# Altium footprint library IC_Logic.PcbLib: 2 footprints
Each footprint in its own frame and in the unit in brackets; x right, y up, seen from the top. Pads: shape width x height; smd on the part's side, far side on the other; paste and mask are expansions set on the pad; w line width, h text height; cw(c..) or ccw(c..) is an arc to the next point about the centre after c.
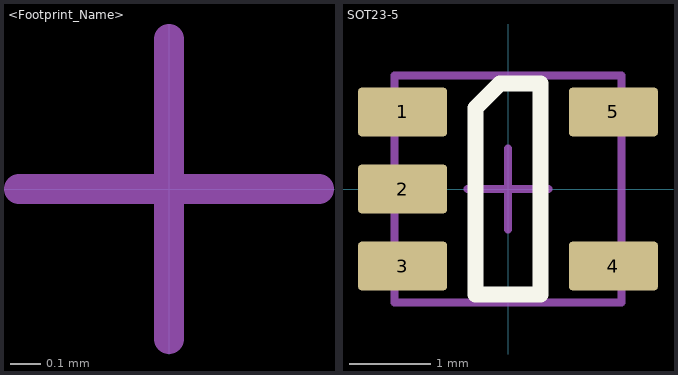
[diagram p0: the footprints below, top view; thin cyan lines are the x and y axes]

## <Footprint_Name> [mm] "<Package_Name>, <Number_of_pins>, <Pitch_in_mm>"
height 2.5
ReperDotTop:
  lines w0.1: -0.5,0 0.5,0 ; 0,-0.5 0,0.5
AssemblyOutlineTop:
  text "'.Designator'" at 0,0 h2.5

## SOT23-5 [mm] "SOT23, 5 pins"
height 2.5
pads (5):
  rrect15% 1.1x0.6 smd: 1(-1.3,0.95) 2(-1.3,0) 3(-1.3,-0.95) 4(1.3,-0.95) 5(1.3,0.95)
Top Overlay:
  lines w0.2: -0.4,-1.3 0.4,-1.3 0.4,1.3 -0.1,1.3 -0.4,1 -0.4,-1.3
ReperDotTop:
  lines w0.1: -0.5,0 0.5,0 ; 0,-0.5 0,0.5
AssemblyOutlineTop:
  lines w0.1: -1.4,-1.4 -1.4,1.4 1.4,1.4 1.4,-1.4 -1.4,-1.4
  text "'.Designator'" at 0,0 h2.5
3D body "User Library-SOT23-5-2.step": height 1.46, standoff 0.01, extent -1.4,-1.45 1.4,1.45